# EAGLE library part TJ1A-6P6C (library den)
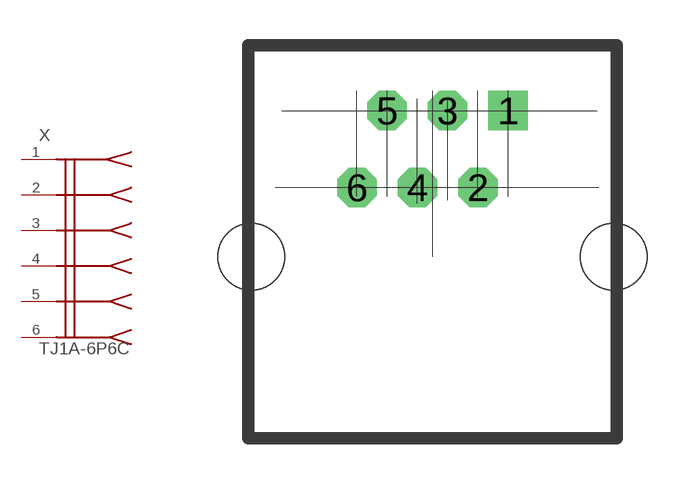
[diagram p15: symbol with the pads of TJ1A-6P6C; footprint TJ1A-6P6C]

Designator prefix X

## TJ1A-6P6C  [TJ1A-6P6C]
1  1
2  2
3  3
4  4
5  5
6  6

## Footprint TJ1A-6P6C (pad centres in mm)
drill 0.8 square: 1 2.5,4.84
drill 0.8 octagon: 2 1.5,2.3; 3 0.5,4.84; 4 -0.5,2.3; 5 -1.5,4.84; 6 -2.5,2.3
hole 2.2 at -6,0
hole 2.2 at 6,0